# Altium footprint library Metal_Opera_Inductors.PcbLib: 1 footprints
Each footprint in its own frame and in the unit in brackets; x right, y up, seen from the top. Pads: shape width x height; smd on the part's side, far side on the other; paste and mask are expansions set on the pad; w line width, h text height; cw(c..) or ccw(c..) is an arc to the next point about the centre after c.
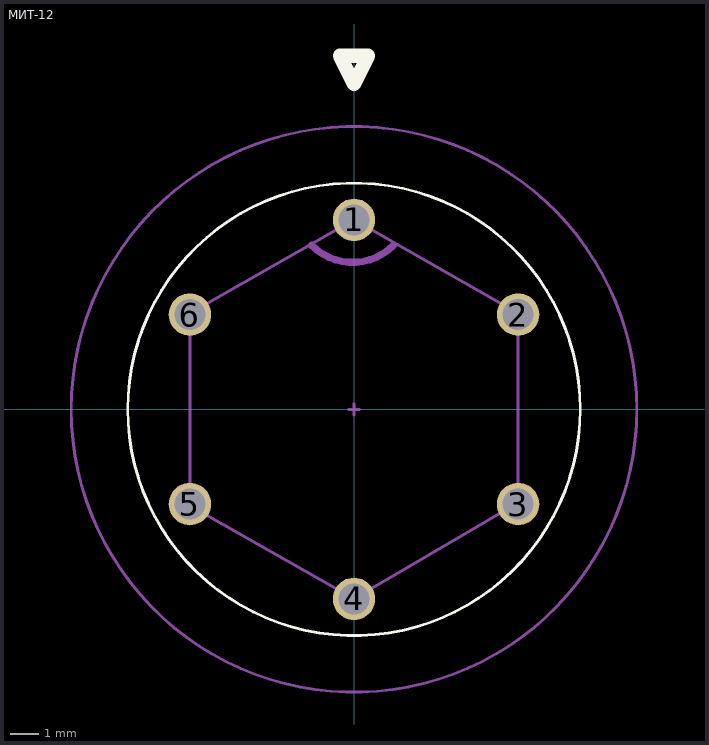
[diagram p0: the footprint, top view; thin cyan lines are the x and y axes]

## МИТ-12 [mm] "Трансоформатор 1:1 двахобмоточный"
pads (6):
  round 1.5 hole 1.1: 1(0,6.7) 2(5.802,3.35) 3(5.802,-3.35) 4(0,-6.7) 5(-5.802,-3.35) 6(-5.802,3.35)
Top Overlay:
  circle w0.1: c0,0 r8
  lines w0.5: -0.5,12.5 0.5,12.5 0,11.5 -0.5,12.5
Top Assembly:
  lines w0.1: -5.8,-3.4 -5.8,3.4 0,6.7 5.8,3.4 5.8,-3.3 0,-6.7 -5.8,-3.4
  lines w0.254: -1.5,5.8 ccw(c-0.05,7.25) 1.4,5.8
Top Courtyard (Mech15):
  circle w0.1: c0,0 r10
  lines w0.1: -0.2,0 0.2,0 ; 0,-0.2 0,0.2
3D body "MIT trans.stp": height 13, standoff -37, extent -10.903,-10.968 11.073,11.02